# Altium schematic symbol library AirBee.SchLib: 13 symbols
Pins are listed as number, name and electrical type; pins without a type are passive.

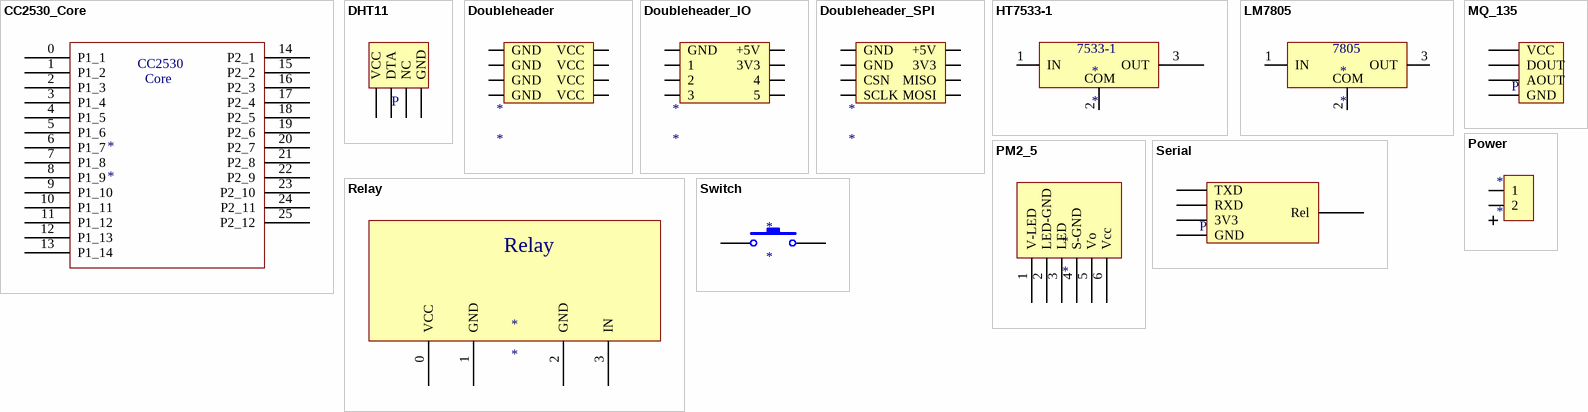
[diagram p0: symbols CC2530_Core to Switch]

## CC2530_Core
designator *
footprint CC2530_Core (Connector; Header; 7x2 Position)
pins: 0 P1_1, 1 P1_2, 2 P1_3, 3 P1_4, 4 P1_5, 5 P1_6, 6 P1_7, 7 P1_8, 8 P1_9, 9 P1_10, 10 P1_11, 11 P1_12, 12 P1_13, 13 P1_14, 14 P2_1, 15 P2_2, 16 P2_3, 17 P2_4, 18 P2_5, 19 P2_6, 20 P2_7, 21 P2_8, 22 P2_9, 23 P2_10, 24 P2_11, 25 P2_12
text: CC2530; Core

## DHT11
designator P
footprint DHT11
pins: 1 VCC, 2 DTA, 3 NC, 4 GND

## Doubleheader
designator *
footprint header16
pins: 1 GND, 2 GND, 3 GND, 4 GND, 5 VCC, 6 VCC, 7 VCC, 8 VCC

## Doubleheader_IO
designator *
footprint header16
pins: 1 GND, 2 1, 3 2, 4 3, 5, 6 4, 7 3V3, 8 +5V

## Doubleheader_SPI
designator *
footprint header16
pins: 1 GND, 2 GND, 3 CSN, 4 SCLK, 5 MOSI, 6 MISO, 7 3V3, 8 +5V

## HT7533-1
designator *
footprint PNP; pin to pad 1>2 2>3 3>1
pins: 1 IN, 2 COM, 3 OUT
text: 7533-1

## LM7805
designator *
footprint 7805
pins: 1 IN, 2 COM, 3 OUT
text: 7805

## MQ_135
designator P
footprint MQ_135; pin to pad 1>4 2>3 3>2 4>1
pins: 1 VCC, 2 DOUT, 3 AOUT, 4 GND

## PM2_5
designator *
footprint PM2.5
pins: 1 V-LED, 2 LED-GND, 3 LED, 4 S-GND, 5 Vo, 6 Vcc

## Power
designator *
footprint dianyuan
pins: 1, 2

## Relay
designator *
pins: 0 VCC, 1 GND, 2 GND, 3 IN

## Serial
designator P
footprint header5
pins: 1 TXD, 2 RXD, 3 3V3, 4 GND, 5 Rel

## Switch
designator *
footprint switch
pins: 1, 2